# Altium footprint library traveling.PcbLib: 1 footprints
Each footprint in its own frame and in the unit in brackets; x right, y up, seen from the top. Pads: shape width x height; smd on the part's side, far side on the other; paste and mask are expansions set on the pad; w line width, h text height; cw(c..) or ccw(c..) is an arc to the next point about the centre after c.
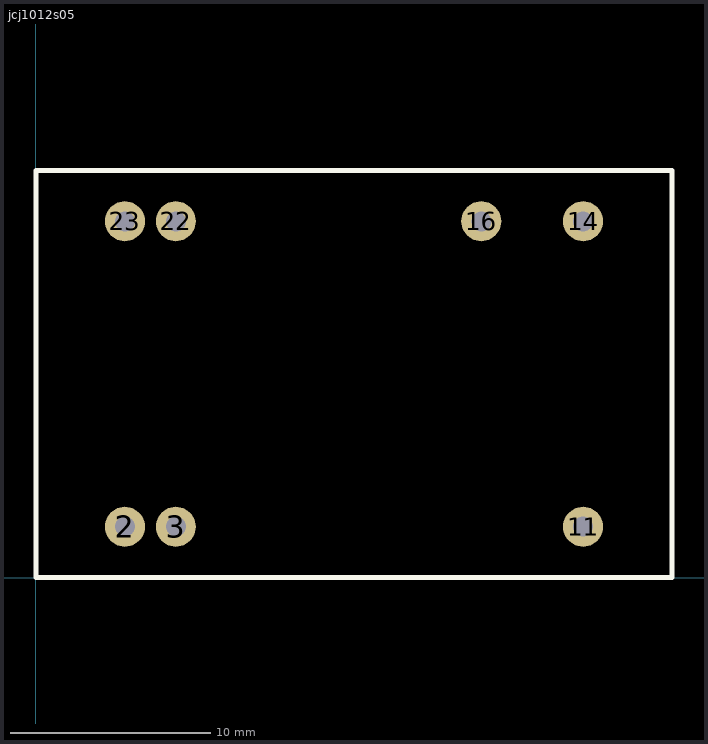
[diagram p0: the footprint, top view; thin cyan lines are the x and y axes]

## jcj1012s05 [mm]
pads (7):
  round 2 hole 1: 2(4.445,2.54) 3(6.985,2.54) 11(27.305,2.54) 14(27.305,17.78) 16(22.225,17.78) 22(6.985,17.78) 23(4.445,17.78)
Top Overlay:
  lines w0.254: 0,0 31.75,0 31.75,20.32 0,20.32 0,0